# Altium schematic symbol library 2100LL-221H-RC.SchLib: 1 symbol
Pins are listed as number, name and electrical type; pins without a type are passive.

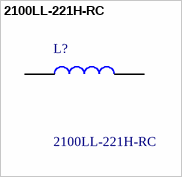
[diagram p0: symbol 2100LL-221H-RC]

## 2100LL-221H-RC
designator L?
Ind High Current Toroid 220uH 15% 1KHz 3.5A RDL - Boxed Product (Development Kits); Manufacturer_Name: Bourns; Geometry.Height: 11.43mm; Manufacturer_Part_Number: 2100LL-221H-RC; Mouser Part Number: *; Mouser Price/Stock: *; Arrow Part Number: *; Arrow Price/Stock: *; Datasheet Link: https://www.bourns.com/products/magnetic-products/j.w.-miller-through-hole-toroid-inductors
footprint 2100LL221HRC
pins: 1, 2